# Altium schematic symbol library Nucleo.SchLib: 17 symbols
Pins are listed as number, name and electrical type; pins without a type are passive.

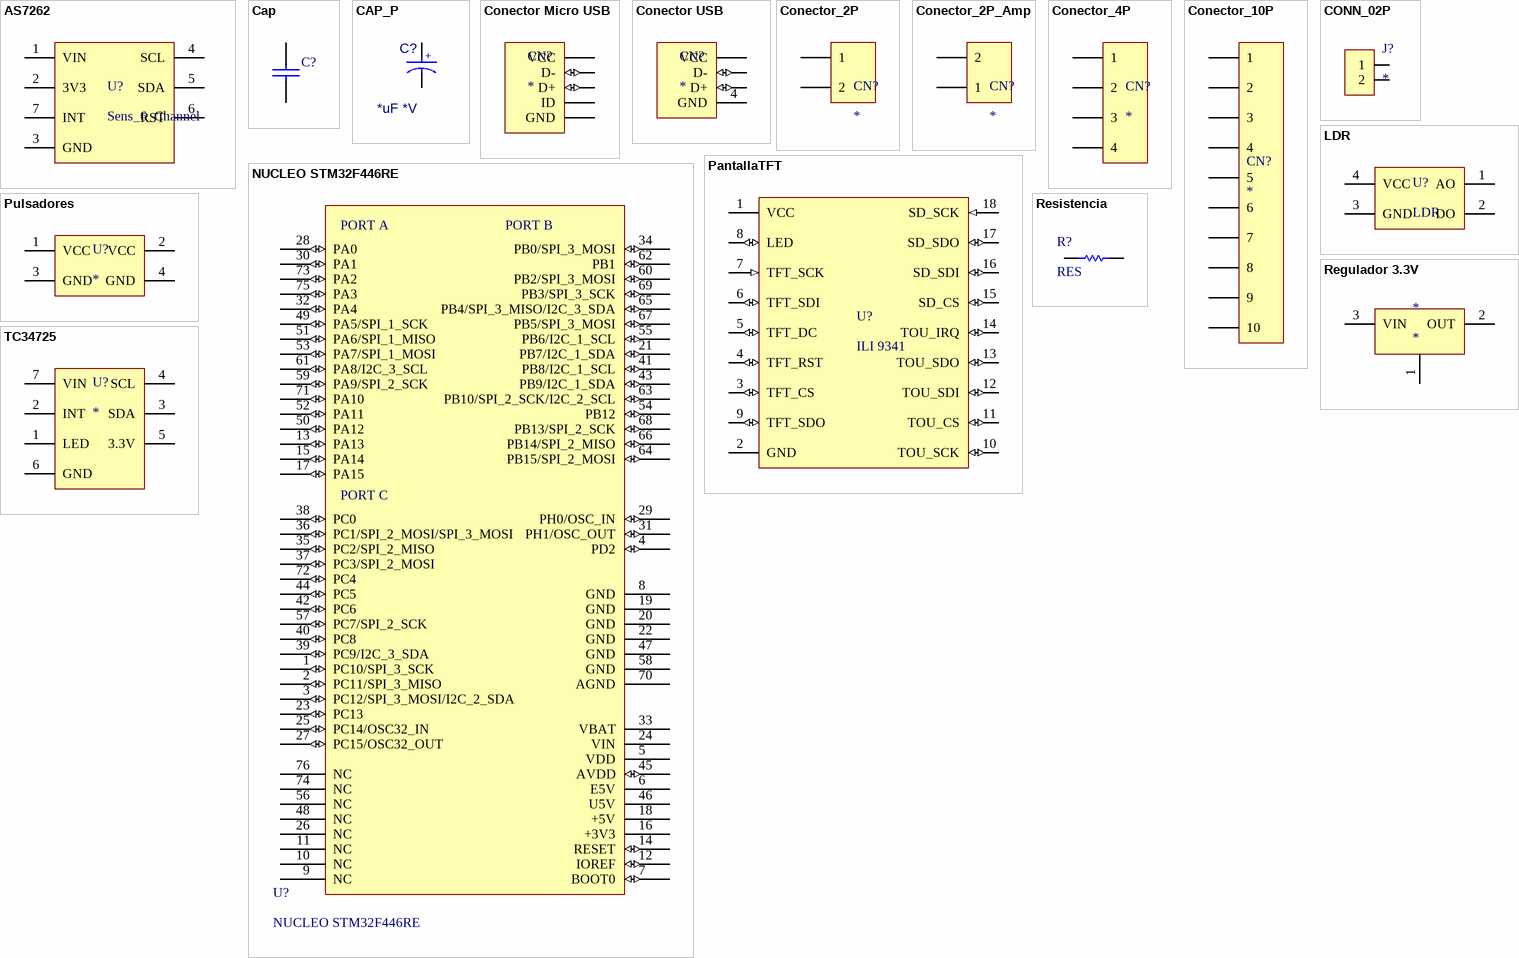
[diagram p0: symbols AS7262 to TC34725]

## AS7262
designator U?, comment Sens_6_Channel
Sensor 6 Channels
footprint AS7262 (AS7262 Sensor 6 Channels)
pins: 1 VIN, 2 3V3, 3 GND, 4 SCL, 5 SDA, 6 RST, 7 INT

## Cap
designator C?
Capacitor; Author: Franco Mendez; Footprint Version: v1.0
footprint C_0805 (Chip Capacitor, 2-Leads, Body 2.00x1.25mm)
pins: 1, 2

## CAP_P
designator C?, comment *uF *V
Polarized Capacitor
footprint C_0.135_8x12mm_V (Capacitor 8x12mm. 0.135mm pitch. Vertical.)
pins: 1, 2
text: +

## Conector Micro USB
designator CN?
Conector Mini USB Type B
footprint MicroUSB-Type B (ZX62D-B-5PA8(30))
footprint MicroUSB-Type B (ZX62D-B-5PA8(30))
pins: 1 VCC (power), 2 D- (io), 3 D+ (io), 4 ID (power), 5 GND

## Conector USB
designator CN?
Conector USB
footprint USB-A
footprint USB-A
pins: 1 VCC (power), 2 D- (io), 3 D+ (io), 4 GND (power)

## Conector_2P
designator CN?
Conector 2 Vias
footprint HEADER_M-2x1_0.1"_V (Tira de pines 2 vias. Paso de 2.54mm)
pins: 1, 2

## Conector_2P_Amp
designator CN?
Conector 2 Vias
footprint HEADER_M-2x1_0.1"_V (Tira de pines 2 vias. Paso de 2.54mm)
pins: 1, 2

## Conector_4P
designator CN?
Conector 4 Vias
footprint HEADER_M-4x1_0.1"_V (Tira de pines 2x2. Paso de 2.54mm)
pins: 1, 2, 3, 4

## Conector_10P
designator CN?
Conector 10 Vias
footprint HEADER_M-10x2_0.1"_V (Tira de pines 10x2. Paso de 2.54mm)
pins: 1, 2, 3, 4, 5, 6, 7, 8, 9, 10

## CONN_02P
designator J?
Bornera 2 Pines Pitch 5mm
footprint HEADER_M-2x1_0.1"_H (Tira de pines 2 vias. Paso de 100mm. Horizontal.)
footprint TERMINAL BLOCK 2EDGRC - D5mm - 02P (Bornera con Tornillos 5mm separación. / 300V 15A.)
footprint TERMINAL BLOCK 2EDGV - D5mm - 02P (Bornera con Tornillos 5mm separación. / 300V 15A.)
footprint TERMINAL BLOCK 2EDGVC - D5mm - 02P (Bornera con Tornillos 5mm separación. / 300V 15A.)
footprint TERMINAL BLOCK - D5mm - 02P (Bornera con Tornillos 5mm separación)
footprint TERMINAL BLOCK DG306 - D5mm - 02P (Bornera con Tornillos 5mm separación. / 250V 15A.)
footprint TERMINAL BLOCK XY2500R - D5mm - 2P (Bornera con Tornillos 5mm separación. / 300V 15A.)
footprint TERMINAL BLOCK DG306 - D5mm - 02P (Bornera con Tornillos 5mm separación. / 250V 15A.)
pins: 1, 2

## LDR
designator U?
Sensor LDR para medir Int.Luz
footprint HEADER_M-4x1_0.1"_H (Tira de pines 4x1. Paso de 2.54mm. Horizontal.)
pins: 1 AO, 2 DO, 3 GND (power), 4 VCC (power)

## NUCLEO STM32F446RE
designator U?
footprint NUCLEO - STM32F446RE - UP
pins: 1 PC10/SPI_3_SCK (io), 2 PC11/SPI_3_MISO (io), 3 PC12/SPI_3_MOSI/I2C_2_SDA (io), 4 PD2 (io), 5 VDD, 6 E5V, 7 BOOT0 (io), 8 GND, 9 NC, 10 NC, 11 NC, 12 IOREF (io), 13 PA13 (io), 14 RESET (io), 15 PA14 (io), 16 +3V3, 17 PA15 (io), 18 +5V, 19 GND, 20 GND, 21 PB7/I2C_1_SDA (io), 22 GND, 23 PC13 (io), 24 VIN, 25 PC14/OSC32_IN (io), 26 NC, 27 PC15/OSC32_OUT (io), 28 PA0 (io), 29 PH0/OSC_IN (io), 30 PA1 (io), 31 PH1/OSC_OUT (io), 32 PA4 (io), 33 VBAT, 34 PB0/SPI_3_MOSI (io), 35 PC2/SPI_2_MISO (io), 36 PC1/SPI_2_MOSI/SPI_3_MOSI (io), 37 PC3/SPI_2_MOSI (io), 38 PC0 (io), 39 PC9/I2C_3_SDA (io), 40 PC8 (io), 41 PB8/I2C_1_SCL (io), 42 PC6 (io), 43 PB9/I2C_1_SDA (io), 44 PC5 (io), 45 AVDD (io), 46 U5V, 47 GND, 48 NC, 49 PA5/SPI_1_SCK (io), 50 PA12 (io), 51 PA6/SPI_1_MISO (io), 52 PA11 (io), 53 PA7/SPI_1_MOSI (io), 54 PB12 (io), 55 PB6/I2C_1_SCL (io), 56 NC, 57 PC7/SPI_2_SCK (io), 58 GND, 59 PA9/SPI_2_SCK (io), 60 PB2/SPI_3_MOSI (io), 61 PA8/I2C_3_SCL (io), 62 PB1 (io), 63 PB10/SPI_2_SCK/I2C_2_SCL (io), 64 PB15/SPI_2_MOSI (io), 65 PB4/SPI_3_MISO/I2C_3_SDA (io), 66 PB14/SPI_2_MISO (io), 67 PB5/SPI_3_MOSI (io), 68 PB13/SPI_2_SCK (io), 69 PB3/SPI_3_SCK (io), 70 AGND, 71 PA10 (io), 72 PC4 (io), 73 PA2 (io), 74 NC, 75 PA3 (io), 76 NC
text: PORT A; PORT B; PORT C

## PantallaTFT
designator U?, comment ILI 9341
Pantalla TFT 2.4"
footprint Pantalla_TFT_2.4" (Pantalla TFT 2.4")
footprint Pantalla_TFT_2.4" (Pantalla TFT 2.4")
pins: 1 VCC (power), 2 GND (power), 3 TFT_CS (io), 4 TFT_RST (io), 5 TFT_DC (io), 6 TFT_SDI (io), 7 TFT_SCK (in), 8 LED (io), 9 TFT_SDO (io), 10 TOU_SCK (io), 11 TOU_CS (io), 12 TOU_SDI (io), 13 TOU_SDO (io), 14 TOU_IRQ (io), 15 SD_CS (io), 16 SD_SDI (io), 17 SD_SDO (io), 18 SD_SCK (in)

## Pulsadores
designator U?
Tact Switch
footprint Tact Switch (Tact Swtitch, 6x6mm)
pins: 1 VCC, 2 VCC, 3 GND, 4 GND

## Regulador 3.3V
designator *
L1117 3.3V
footprint Regulador 3.3V (L117 3.3V)
pins: 1 GND, 2 OUT, 3 VIN

## Resistencia
designator R?, comment RES
Resistor; Footprint Version: v1.0; Packaging: *; Author: Franco Mendez
footprint R_0805 (Chip Resistor, 2-Leads, Body 2.00x1.25mm, IPC Low Density)
footprint R_400 (resistance THT 1/4W. Vertical.)
pins: 1, 2

## TC34725
designator U?
Sensor RGB
footprint TC34725 (TC34725 Sensor RGB)
pins: 1 LED, 2 INT, 3 SDA, 4 SCL, 5 3.3V, 6 GND, 7 VIN